# EAGLE library part 691401700012 (library Wurth_Elektronik_Electromechanic_Terminal_Blocks_Connectors_rev15c)
WR-TBL Terminal block - serie 401 5,0mm - Spring clamp/Screw less - Vertical entry - 12p Code:Con_TBL_Screwless_5.00_6914017000xx_691401700012 <http://katalog.we-online.de/media/images/eican/Con_TBL_Screwless_5.00_6914017000xx_pf2.jpg> Details see: http://katalog.we-online.de/en/em/691_401_700_0xx/691_401_700_012?m Created 2014-12-22, aslant tao 2014 (C) Würth Elektronik
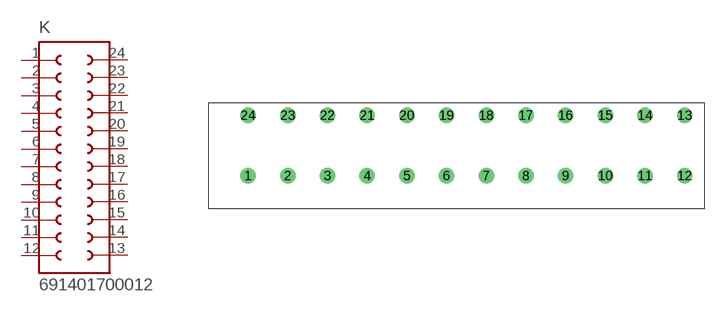
[diagram p268: symbol with the pads of 691401700012; footprint 691401700012]

Designator prefix K

## 691401700012  [691401700012]
1  1  pas
2  2  pas
3  3  pas
4  4  pas
5  5  pas
6  6  pas
7  7  pas
8  8  pas
9  9  pas
10  10  pas
11  11  pas
12  12  pas
13  13  pas
14  14  pas
15  15  pas
16  16  pas
17  17  pas
18  18  pas
19  19  pas
20  20  pas
21  21  pas
22  22  pas
23  23  pas
24  24  pas

## Footprint 691401700012 (pad centres in mm)
WR-TBL Serie 401 - 5.0mm Screwless Vertikal Entry - 2 mm2 Wires, 12 Pins
drill 1.3: 1 -5,0; 2 0,0; 3 5,0; 4 10,0; 5 15,0; 6 20,0; 7 25,0; 8 30,0; 9 35,0; 10 40,0; 11 45,0; 12 50,0; 13 50,7.62; 14 45,7.62; 15 40,7.62; 16 35,7.62; 17 30,7.62; 18 25,7.62; 19 20,7.62; 20 15,7.62; 21 10,7.62; 22 5,7.62; 23 0,7.62; 24 -5,7.62